# Altium schematic symbol library CANCurrentModuleLib.SchLib: 1 symbol
Pins are listed as number, name and electrical type; pins without a type are passive.

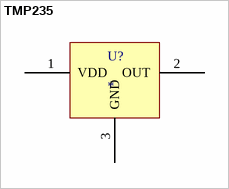
[diagram p0: symbol TMP235]

## TMP235
designator U?
pins: 1 VDD, 2 OUT, 3 GND